# EAGLE library part 178328-2 (library 178328-2)
TE Connectivity D-3000 Series, 3.81mm Pitch 20 Way Straight PCB Header, Solder Termination Source: Datasheet <http://www.te.com/commerce/DocumentDelivery/DDEController?Action=showdoc&DocId=Customer Drawing178328D1pdfEnglishENG_CD_178328_D1.pdf178328-2>
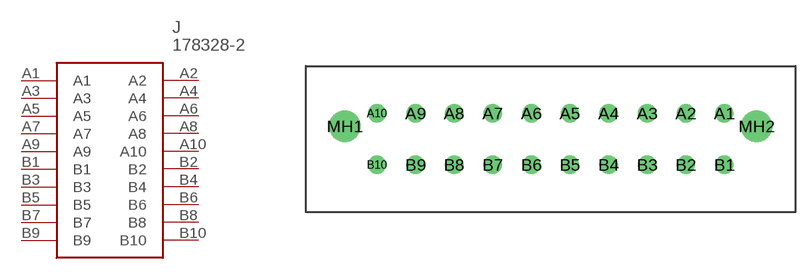
[diagram p0: symbol with the pads of 178328-2; footprint 178328-2]

Designator prefix J

## 178328-2 (Description: TE Connectivity D-3000 Series, 3.81mm Pitch 20 Way Straight PCB Header, Solder Termination; Height: mm; Manufacturer_Name: TE Connectivity; Manufacturer_Part_Number: 178328-2; Mouser_Part_Number: 571-178328-2; Mouser_Price-Stock: https://www.mouser.com/Search/Refine.aspx?Keyword=571-178328-2; RS_Part_Number: 6803460; RS_Price-Stock: http://uk.rs-online.com/web/p/products/6803460)  [178328-2]
A1  A1
A2  A2
A3  A3
A4  A4
A5  A5
A6  A6
A7  A7
A8  A8
A9  A9
A10  A10
B1  B1
B2  B2
B3  B3
B4  B4
B5  B5
B6  B6
B7  B7
B8  B8
B9  B9
B10  B10

## Footprint 178328-2 (pad centres in mm)
178328-2
drill 1.2 pad 1.8: A1 17.145,2.54; A2 13.335,2.54; A3 9.525,2.54; A4 5.715,2.54; A5 1.905,2.54; A6 -1.905,2.54; A7 -5.715,2.54; A8 -9.525,2.54; A9 -13.335,2.54; A10 -17.145,2.54; B1 17.145,-2.54; B2 13.335,-2.54; B3 9.525,-2.54; B4 5.715,-2.54; B5 1.905,-2.54; B6 -1.905,-2.54; B7 -5.715,-2.54; B8 -9.525,-2.54; B9 -13.335,-2.54; B10 -17.145,-2.54
drill 2.1 pad 3: MH1 -20.32,1.27; MH2 20.32,1.27